# EAGLE library part APA102_APA102 (library GoomWave)
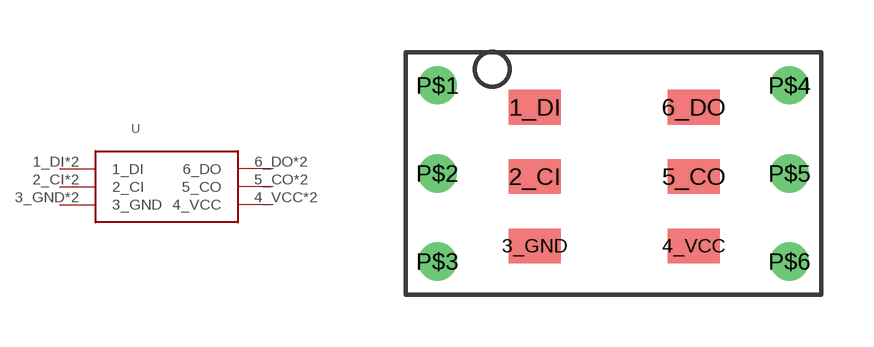
[diagram p0: symbol with the pads of APA102_APA102; footprint APA102_APA102]

Designator prefix -

## APA102_APA102  [APA102_APA102]
1_DI  1_DI
2_CI  2_CI
3_GND  3_GND
4_VCC  4_VCC
5_CO  5_CO
6_DO  6_DO
P$1  1_DI
P$2  2_CI
P$3  3_GND
P$4  4_VCC
P$5  5_CO
P$6  6_DO

## Footprint APA102_APA102 (pad centres in mm)
smd 1.5 x 1: 1_DI -2.27,1.905; 2_CI -2.27,-0.095; 3_GND -2.27,-2.095; 4_VCC 2.316,-2.095; 5_CO 2.316,-0.095; 6_DO 2.316,1.905
drill 0.6: P$1 -5.08,2.54; P$2 -5.08,0; P$3 -5.08,-2.54; P$4 5.08,2.54; P$5 5.08,0; P$6 5.08,-2.54